# Altium footprint library Schottky Diode SS32 footprint.PcbLib: 1 footprints
Each footprint in its own frame and in the unit in brackets; x right, y up, seen from the top. Pads: shape width x height; smd on the part's side, far side on the other; paste and mask are expansions set on the pad; w line width, h text height; cw(c..) or ccw(c..) is an arc to the next point about the centre after c.
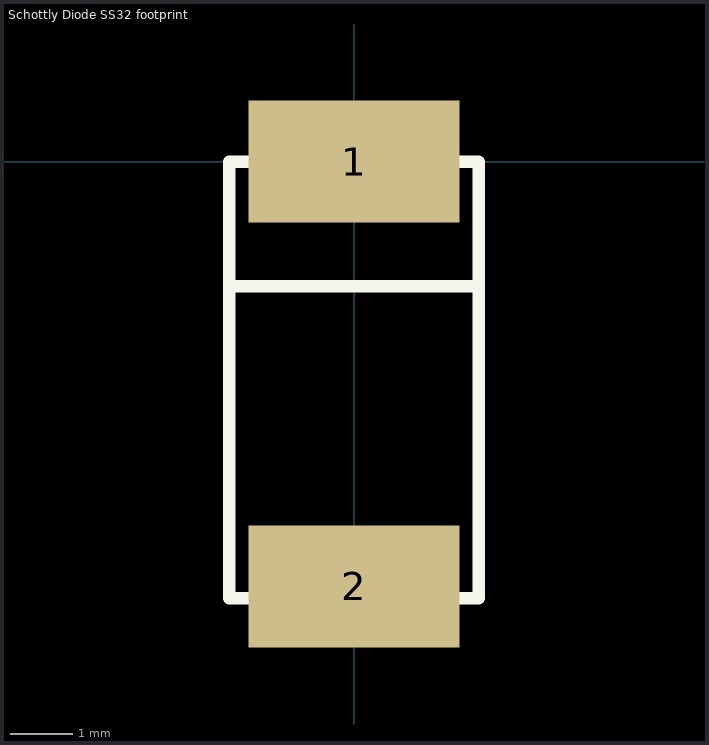
[diagram p0: the footprint, top view; thin cyan lines are the x and y axes]

## Schottly Diode SS32 footprint [mm]
pads (2):
  rect 3.39x1.96 smd paste+0 mask+0.05: 1(0,0) 2(0,-6.81)
Top Overlay:
  lines w0.2: -2,-2 2,-2 ; -2,-7 2,-7 2,0 -2,0 -2,-7